# EAGLE library part TEN_40 (library Traco_Board)
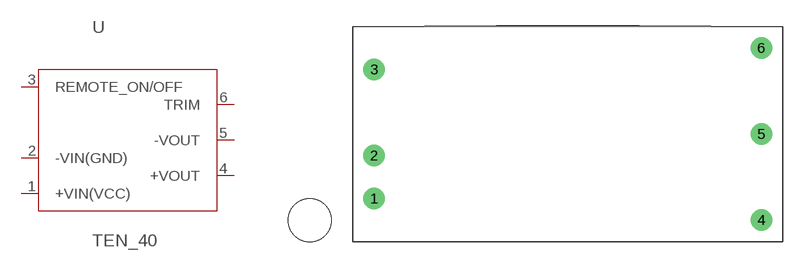
[diagram p0: symbol with the pads of TEN_40; footprint TEN_40]

Designator prefix -

## TEN_402411E  [TEN_40]
1  +VIN(VCC)
2  -VIN(GND)
3  REMOTE_ON/OFF
4  +VOUT
5  -VOUT
6  TRIM

## TEN_402412E  [TEN_40]
Pads as for TEN_40

## Footprint TEN_40 (pad centres in mm)
drill 1.016 pad 2.54: 1 -22.86,-7.62; 2 -22.86,-2.54; 3 -22.86,7.62; 4 22.86,-10.16; 5 22.86,0; 6 22.86,10.16